# EAGLE library part EP4CE10 (library xilinx)
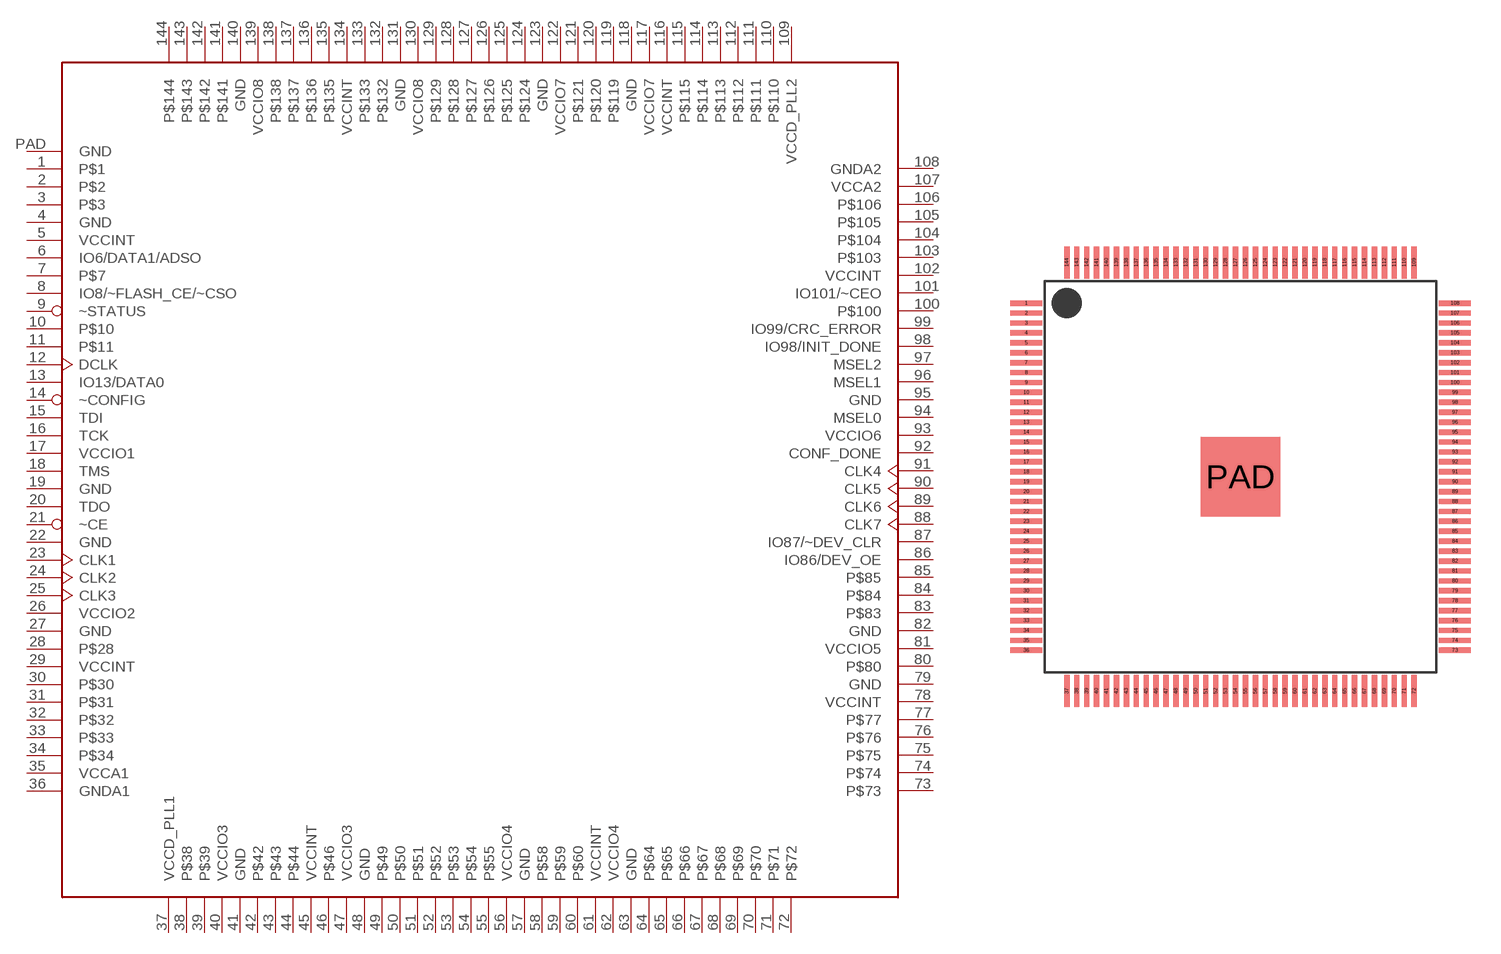
[diagram p0: symbol with the pads of 144TQFP; footprint 144TQFP]

Designator prefix -

## EP4CE10E22  [144TQFP]
1  P$1
2  P$2
3  P$3
4  GND  pwr
5  VCCINT  pwr
6  IO6/DATA1/ADSO
7  P$7
8  IO8/~FLASH_CE/~CSO
9  ~STATUS
10  P$10
11  P$11
12  DCLK
13  IO13/DATA0
14  ~CONFIG  in
15  TDI  in
16  TCK  in
17  VCCIO1  pwr
18  TMS  in
19  GND  pwr
20  TDO
21  ~CE  in
22  GND  pwr
23  CLK1  in
24  CLK2  in
25  CLK3  in
26  VCCIO2  pwr
27  GND  pwr
28  P$28
29  VCCINT  pwr
30  P$30
31  P$31
32  P$32
33  P$33
34  P$34
35  VCCA1  pwr
36  GNDA1  pwr
37  VCCD_PLL1  pwr
38  P$38
39  P$39
40  VCCIO3  pwr
41  GND  pwr
42  P$42
43  P$43
44  P$44
45  VCCINT  pwr
46  P$46
47  VCCIO3  pwr
48  GND  pwr
49  P$49
50  P$50
51  P$51
52  P$52
53  P$53
54  P$54
55  P$55
56  VCCIO4  pwr
57  GND  pwr
58  P$58
59  P$59
60  P$60
61  VCCINT  pwr
62  VCCIO4  pwr
63  GND  pwr
64  P$64
65  P$65
66  P$66
67  P$67
68  P$68
69  P$69
70  P$70
71  P$71
72  P$72
73  P$73
74  P$74
75  P$75
76  P$76
77  P$77
78  VCCINT  pwr
79  GND  pwr
80  P$80
81  VCCIO5  pwr
82  GND  pwr
83  P$83
84  P$84
85  P$85
86  IO86/DEV_OE
87  IO87/~DEV_CLR
88  CLK7  in
89  CLK6  in
90  CLK5  in
91  CLK4  in
92  CONF_DONE
93  VCCIO6  pwr
94  MSEL0  in
95  GND  pwr
96  MSEL1  in
97  MSEL2  in
98  IO98/INIT_DONE
99  IO99/CRC_ERROR
100  P$100
101  IO101/~CEO
102  VCCINT  pwr
103  P$103
104  P$104
105  P$105
106  P$106
107  VCCA2  pwr
108  GNDA2  pwr
109  VCCD_PLL2  pwr
110  P$110
111  P$111
112  P$112
113  P$113
114  P$114
115  P$115
116  VCCINT  pwr
117  VCCIO7  pwr
118  GND  pwr
119  P$119
120  P$120
121  P$121
122  VCCIO7  pwr
123  GND  pwr
124  P$124
125  P$125
126  P$126
127  P$127
128  P$128
129  P$129
130  VCCIO8  pwr
131  GND  pwr
132  P$132
133  P$133
134  VCCINT  pwr
135  P$135
136  P$136
137  P$137
138  P$138
139  VCCIO8  pwr
140  GND  pwr
141  P$141
142  P$142
143  P$143
144  P$144
PAD  GND  pwr

## Footprint 144TQFP (pad centres in mm)
smd 1.6 x 0.27: 1 -10.8,8.75; 2 -10.8,8.25; 3 -10.8,7.75; 4 -10.8,7.25; 5 -10.8,6.75; 6 -10.8,6.25; 7 -10.8,5.75; 8 -10.8,5.25; 9 -10.8,4.75; 10 -10.8,4.25; 11 -10.8,3.75; 12 -10.8,3.25; 13 -10.8,2.75; 14 -10.8,2.25; 15 -10.8,1.75; 16 -10.8,1.25; 17 -10.8,0.75; 18 -10.8,0.25; 19 -10.8,-0.25; 20 -10.8,-0.75; 21 -10.8,-1.25; 22 -10.8,-1.75; 23 -10.8,-2.25; 24 -10.8,-2.75; 25 -10.8,-3.25; 26 -10.8,-3.75; 27 -10.8,-4.25; 28 -10.8,-4.75; 29 -10.8,-5.25; 30 -10.8,-5.75; 31 -10.8,-6.25; 32 -10.8,-6.75; 33 -10.8,-7.25; 34 -10.8,-7.75; 35 -10.8,-8.25; 36 -10.8,-8.75; 73 10.8,-8.75; 74 10.8,-8.25; 75 10.8,-7.75; 76 10.8,-7.25; 77 10.8,-6.75; 78 10.8,-6.25; 79 10.8,-5.75; 80 10.8,-5.25; 81 10.8,-4.75; 82 10.8,-4.25; 83 10.8,-3.75; 84 10.8,-3.25; 85 10.8,-2.75; 86 10.8,-2.25; 87 10.8,-1.75; 88 10.8,-1.25; 89 10.8,-0.75; 90 10.8,-0.25; 91 10.8,0.25; 92 10.8,0.75; 93 10.8,1.25; 94 10.8,1.75; 95 10.8,2.25; 96 10.8,2.75; 97 10.8,3.25; 98 10.8,3.75; 99 10.8,4.25; 100 10.8,4.75; 101 10.8,5.25; 102 10.8,5.75; 103 10.8,6.25; 104 10.8,6.75; 105 10.8,7.25; 106 10.8,7.75; 107 10.8,8.25; 108 10.8,8.75
smd 0.27 x 1.6: 37 -8.75,-10.8; 38 -8.25,-10.8; 39 -7.75,-10.8; 40 -7.25,-10.8; 41 -6.75,-10.8; 42 -6.25,-10.8; 43 -5.75,-10.8; 44 -5.25,-10.8; 45 -4.75,-10.8; 46 -4.25,-10.8; 47 -3.75,-10.8; 48 -3.25,-10.8; 49 -2.75,-10.8; 50 -2.25,-10.8; 51 -1.75,-10.8; 52 -1.25,-10.8; 53 -0.75,-10.8; 54 -0.25,-10.8; 55 0.25,-10.8; 56 0.75,-10.8; 57 1.25,-10.8; 58 1.75,-10.8; 59 2.25,-10.8; 60 2.75,-10.8; 61 3.25,-10.8; 62 3.75,-10.8; 63 4.25,-10.8; 64 4.75,-10.8; 65 5.25,-10.8; 66 5.75,-10.8; 67 6.25,-10.8; 68 6.75,-10.8; 69 7.25,-10.8; 70 7.75,-10.8; 71 8.25,-10.8; 72 8.75,-10.8; 109 8.75,10.8; 110 8.25,10.8; 111 7.75,10.8; 112 7.25,10.8; 113 6.75,10.8; 114 6.25,10.8; 115 5.75,10.8; 116 5.25,10.8; 117 4.75,10.8; 118 4.25,10.8; 119 3.75,10.8; 120 3.25,10.8; 121 2.75,10.8; 122 2.25,10.8; 123 1.75,10.8; 124 1.25,10.8; 125 0.75,10.8; 126 0.25,10.8; 127 -0.25,10.8; 128 -0.75,10.8; 129 -1.25,10.8; 130 -1.75,10.8; 131 -2.25,10.8; 132 -2.75,10.8; 133 -3.25,10.8; 134 -3.75,10.8; 135 -4.25,10.8; 136 -4.75,10.8; 137 -5.25,10.8; 138 -5.75,10.8; 139 -6.25,10.8; 140 -6.75,10.8; 141 -7.25,10.8; 142 -7.75,10.8; 143 -8.25,10.8; 144 -8.75,10.8
smd 4 x 4: PAD 0,0